# EAGLE library part LEVEL_SHIFTER_8_BIDIR_AUTO (library everykey)
Bidirectional level shifter with OE and automatic direction detection Fairchild FXMA10820 NXP NVT2008 (note: EN instead of !OE)
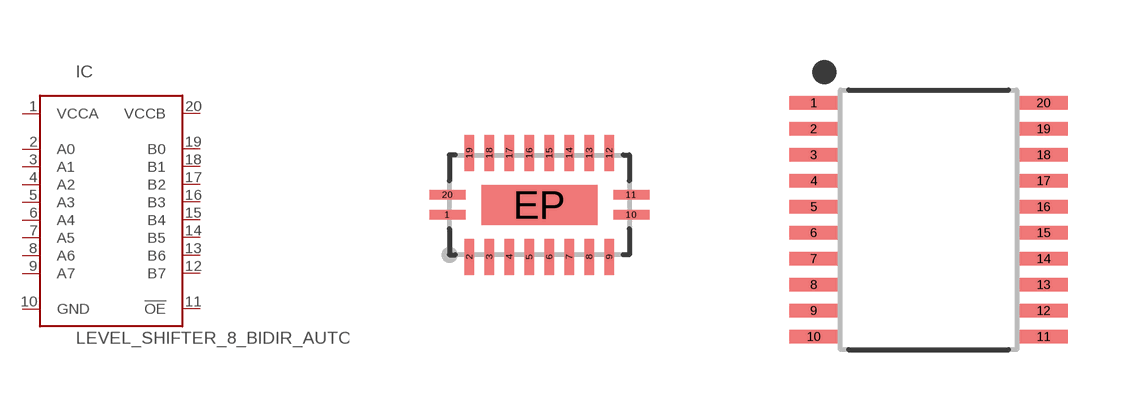
[diagram p27: symbol with the pads of FXMA108; footprints FXMA108, TSSOP20-4.4-0.65]

Designator prefix IC

## LEVEL_SHIFTER_8_BIDIR_AUTO-FXMA10820-20DFN  [FXMA108]
1  VCCA  pwr
2  A0
3  A1
4  A2
5  A3
6  A4
7  A5
8  A6
9  A7
10  GND  pwr
11  !OE  in
12  B7
13  B6
14  B5
15  B4
16  B3
17  B2
18  B1
19  B0
20  VCCB  pwr

## LEVEL_SHIFTER_8_BIDIR_AUTO-NVT2008-TSSOP20  [TSSOP20-4.4-0.65]
1  GND  pwr
2  VCCA  pwr
3  A0
4  A1
5  A2
6  A3
7  A4
8  A5
9  A6
10  A7
11  B7
12  B6
13  B5
14  B4
15  B3
16  B2
17  B1
18  B0
19  VCCB  pwr
20  !OE  in

## Footprint FXMA108 (pad centres in mm)
Fairchild bidirectional 8 channel level translator 20-DFN package
smd 0.9 x 0.24: 1 -2.3,-0.25; 10 2.3,-0.25; 11 2.3,0.25; 20 -2.3,0.25
smd 0.24 x 0.9: 2 -1.75,-1.3; 3 -1.25,-1.3; 4 -0.75,-1.3; 5 -0.25,-1.3; 6 0.25,-1.3; 7 0.75,-1.3; 8 1.25,-1.3; 9 1.75,-1.3; 12 1.75,1.3; 13 1.25,1.3; 14 0.75,1.3; 15 0.25,1.3; 16 -0.25,1.3; 17 -0.75,1.3; 18 -1.25,1.3; 19 -1.75,1.3
smd 2.9 x 1: EP 0,0

## Footprint TSSOP20-4.4-0.65 (pad centres in mm)
TSSOP package, 20 pins, 0.65mm pitch, 4.4mm body width
smd 1.2 x 0.33: 1 -2.875,2.925; 2 -2.875,2.275; 3 -2.875,1.625; 4 -2.875,0.975; 5 -2.875,0.325; 6 -2.875,-0.325; 7 -2.875,-0.975; 8 -2.875,-1.625; 9 -2.875,-2.275; 10 -2.875,-2.925; 11 2.875,-2.925; 12 2.875,-2.275; 13 2.875,-1.625; 14 2.875,-0.975; 15 2.875,-0.325; 16 2.875,0.325; 17 2.875,0.975; 18 2.875,1.625; 19 2.875,2.275; 20 2.875,2.925